# Altium footprint library 羽毛球团队.PcbLib: 75 footprints (part 5 of 5)
Each footprint in its own frame and in the unit in brackets; x right, y up, seen from the top. Pads: shape width x height; smd on the part's side, far side on the other; paste and mask are expansions set on the pad; w line width, h text height; cw(c..) or ccw(c..) is an arc to the next point about the centre after c.
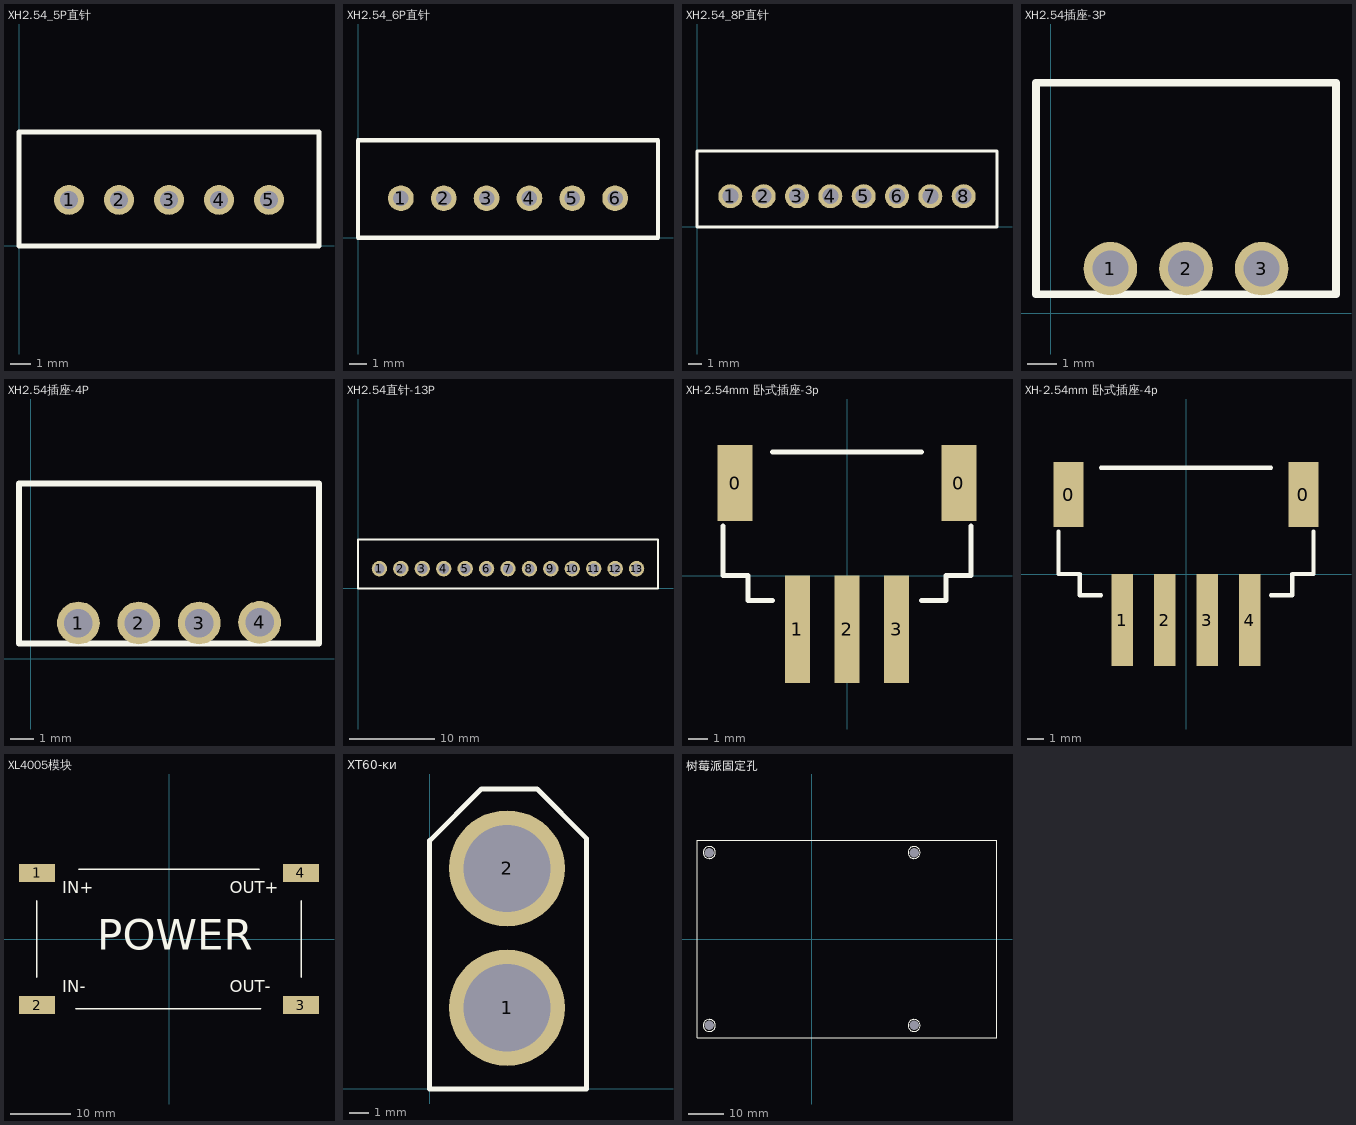
[diagram p4: the footprints below, top view; thin cyan lines are the x and y axes]

## XH2.54_5P直针 [mm]
pads (5):
  round 1.5 hole 0.9: 1(2.5,2.31) 2(5,2.31) 3(7.5,2.31) 4(10,2.31) 5(12.5,2.31)
Top Overlay:
  lines w0.254: 0,0 0,5.7 15,5.7 15,0 0,0

## XH2.54_6P直针 [mm]
pads (6):
  round 1.5 hole 0.9: 1(2.5,2.31) 2(5,2.31) 3(7.5,2.31) 4(10,2.31) 5(12.5,2.31) 6(15,2.31)
Top Overlay:
  lines w0.254: 0,0 17.5,0 17.5,5.7 0,5.7 0,0

## XH2.54_8P直针 [mm]
pads (8):
  round 1.8 hole 1.2: 1(2.5,2.31) 2(5,2.31) 3(7.5,2.31) 4(10,2.31) 5(12.5,2.31) 6(15,2.31) 7(17.5,2.31) 8(20,2.31)
Top Overlay:
  lines w0.254: 0,0 0,5.7 22.5,5.7 22.5,0 0,0

## XH2.54插座-3P [mm]
pads (3):
  round 1.8 hole 1.2: 1(2,1.5) 2(4.54,1.5) 3(7.08,1.5)
Top Overlay:
  lines w0.254: -0.5,0.635 9.58,0.635 9.58,7.747 -0.5,7.747 -0.5,0.635

## XH2.54插座-4P [mm]
pads (4):
  round 1.8 hole 1.2: 1(2,1.5) 2(4.54,1.5) 3(7.08,1.5) 4(9.62,1.524)
Top Overlay:
  lines w0.254: -0.5,0.635 12.12,0.635 12.12,7.366 -0.5,7.366 -0.5,0.635

## XH2.54直针-13P [mm]
pads (13):
  round 1.8 hole 1.2: 1(2.5,2.31) 2(5,2.31) 3(7.5,2.31) 4(10,2.31) 5(12.5,2.31) 6(15,2.31) 7(17.5,2.31) 8(20,2.31) 9(22.5,2.31) 10(25,2.31) 11(27.5,2.31) 12(30,2.31) 13(32.5,2.31)
Top Overlay:
  lines w0.254: 0,0 0,5.7 35,5.7 35,0 0,0

## XH-2.54mm 卧式插座-3p [mm]
pads (5):
  rect 1.8x3.9 smd: 0(-5.74,4.75) 0(5.74,4.75)
  rect 1.3x5.5 smd: 1(-2.54,-2.75) 2(0,-2.75) 3(2.54,-2.75)
Top Overlay:
  lines w0.254: -6.35,2.54 -6.35,0 -5.08,0 -5.08,-1.27 -3.81,-1.27 ; -3.81,6.35 3.81,6.35 ; 3.81,-1.27 5.08,-1.27 5.08,0 6.35,0 6.35,2.54

## XH-2.54mm 卧式插座-4p [mm]
pads (6):
  rect 1.8x3.9 smd: 0(-7.01,4.75) 0(7.01,4.75)
  rect 1.3x5.5 smd: 1(-3.81,-2.75) 2(-1.27,-2.75) 3(1.27,-2.75) 4(3.81,-2.75)
Top Overlay:
  lines w0.254: -7.62,2.54 -7.62,0 -6.35,0 -6.35,-1.27 -5.08,-1.27 ; -5.08,6.35 5.08,6.35 ; 5.08,-1.27 6.35,-1.27 6.35,0 7.62,0 7.62,2.54

## XL4005模块 [mm]
pads (4):
  rect 6x3 smd: 1(-22,11) 2(-22,-11) 3(22,-11) 4(22,11)
Top Overlay:
  lines w0.254: -22.01,-6.35 -22.01,6.35 ; -15.508,-11.63 15.254,-11.63 ; -15,11.63 15,11.63 ; 22.01,-6.35 22.01,6.35
  text "POWER" at -11.938,-1.778 h5.08
  text "OUT-" at 10.16,-8.89 h2.03
  text "OUT+" at 10.16,7.62 h2.03
  text "IN-" at -17.78,-8.89 h2.03
  text "IN+" at -17.78,7.62 h2.03

## XT60-ĸͷ [mm]
pads (2):
  round 6 hole 4.5: 1(4,4.2) 2(4,11.4)
Top Overlay:
  lines w0.254: 0,12.827 2.667,15.494 2.667,15.5 ; 5.08,15.5 5.554,15.5 ; 2.667,15.5 5.554,15.5 ; 2.667,15.5 0,12.833 0,0 8.1,0 8.1,12.954 ; 5.554,15.5 8.1,12.954 ; 5.554,15.5 8.1,12.954

## 树莓派固定孔 [mm]
pads (4):
  round 0 hole 2.7: 0(-29,-24.5) 0(-29,24.5) 0(29,-24.5) 0(29,24.5)
Top Overlay:
  circle w0.254: c29,24.5 r1.7
  circle w0.254: c29,-24.5 r1.7
  circle w0.254: c-29,-24.5 r1.7
  circle w0.254: c-29,24.5 r1.7
  lines w0.254: -32.5,-28 52.5,-28 52.5,28 -32.5,28 -32.5,-28